# EAGLE library part PYB30-Q48-S5 (library CUI_DCDC_Conv)
12/-12 Vdc, 1.25 A, 30 W, 9~36 Vdc Input Range
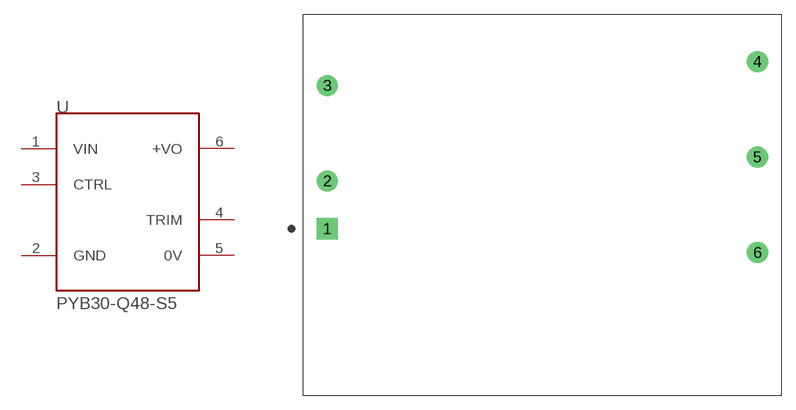
[diagram p0: symbol with the pads of CONV_PYB30-Q48-S5; footprint CONV_PYB30-Q48-S5]

Designator prefix U

## PYB30-Q48-S5 (MANUFACTURER: CUI Inc; PARTREV: 1.02; STANDARD: Manufacturer Recommendations)  [CONV_PYB30-Q48-S5]
1  VIN  in
2  GND  pwr
3  CTRL  in
4  TRIM  pas
5  0V  pwr
6  +VO  out

## Footprint CONV_PYB30-Q48-S5 (pad centres in mm)
drill 1.5 square: 1 -22.86,-2.54
drill 1.5: 2 -22.86,2.54; 3 -22.86,12.7; 4 22.86,15.24; 5 22.86,5.08; 6 22.86,-5.08